# Altium schematic symbol library 61900311121.SchLib: 1 symbol
Pins are listed as number, name and electrical type; pins without a type are passive.

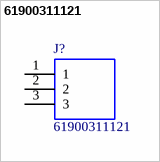
[diagram p0: symbol 61900311121]

## 61900311121
designator J?
Wurth Elektronik WR-WTB, 3 Way, 1 Row, Straight PCB Header; Geometry.Height: 11.75mm; Mouser Part Number: 710-61900311121; Mouser Price/Stock: https://www.mouser.co.uk/ProductDetail/Wurth-Elektronik/61900311121?qs=W%252B2sBeLta1Z31%252BuLpQFFig%3D%3D; Manufacturer_Name: Wurth Elektronik; Manufacturer_Part_Number: 61900311121; Datasheet Link: https://katalog.we-online.de/em/datasheet/61900311121.pdf
footprint SHDR3W79P0X254_1X3_762X580X1175P
pins: 1, 2, 3